# EAGLE library part STV9556 (library OU)
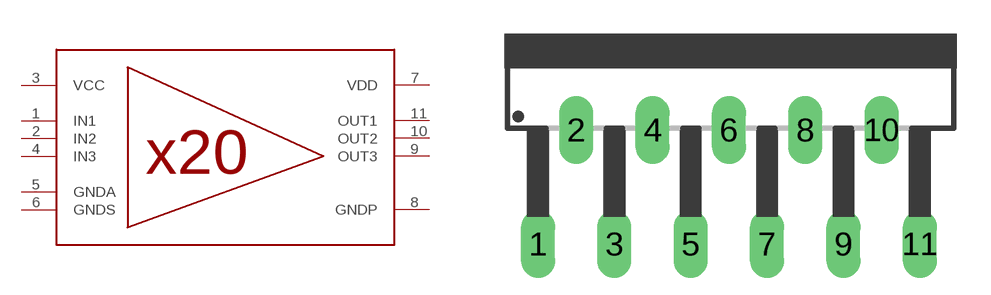
[diagram p4: symbol with the pads of TA11B; footprint TA11B]

Designator prefix -

## STV9556  [TA11B]
1  IN1
2  IN2
3  VCC
4  IN3
5  GNDA
6  GNDS
7  VDD
8  GNDP
9  OUT3
10  OUT2
11  OUT1

## Footprint TA11B (pad centres in mm)
TO-220 11 lead, National Semiconductor TA11B
drill 1.016 long: 1 -8.509,-7.62; 2 -6.807,-2.54; 3 -5.105,-7.62; 4 -3.404,-2.54; 5 -1.702,-7.62; 6 0,-2.54; 7 1.702,-7.62; 8 3.404,-2.54; 9 5.105,-7.62; 10 6.807,-2.54; 11 8.509,-7.62